# Altium footprint library MTG_HOLE_3_7MM_P.PcbLib: 1 footprints
Each footprint in its own frame and in the unit in brackets; x right, y up, seen from the top. Pads: shape width x height; smd on the part's side, far side on the other; paste and mask are expansions set on the pad; w line width, h text height; cw(c..) or ccw(c..) is an arc to the next point about the centre after c.
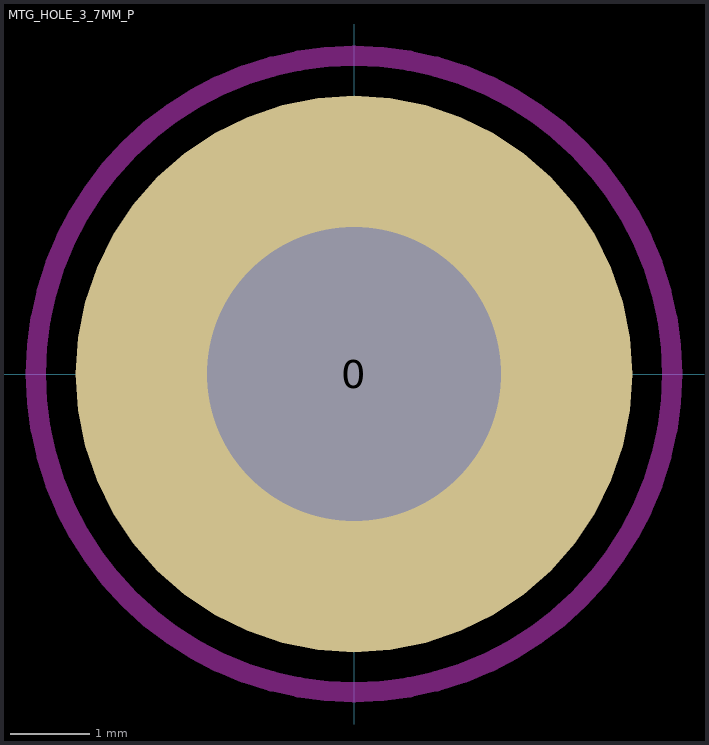
[diagram p0: the footprint, top view; thin cyan lines are the x and y axes]

## MTG_HOLE_3_7MM_P [mm] "Mounting Hole .156\" plated"
height 12.7
pads (1):
  round 7 hole 3.7 unplated mask+0.127: 0(0,0)
Keep-Out Layer:
  circle w0.254: c0,0 r4